# EAGLE library part XTR105 (library burr-brown)
4-20mA Current Transmitter with Sensor Excitation and Linearization
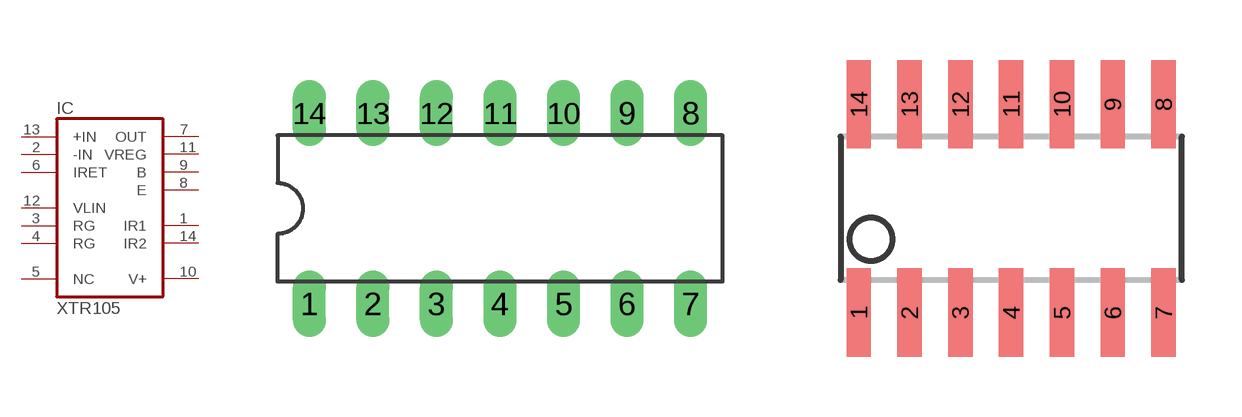
[diagram p2: symbol with the pads of DIL14; footprints DIL14, SO14]

Designator prefix IC

## XTR105P (MF: TEXAS INSTRUMENT CONNECTORS; MPN: XTR105P; OC_FARNELL: 1461141; OC_NEWARK: 77C3629)  [DIL14]
1  IR1  pas
2  -IN  in
3  RG  pas
4  RG  pas
5  NC  nc
6  IRET  in
7  OUT  out
8  E  out
9  B  out
10  V+  pwr
11  VREG  out
12  VLIN  pas
13  +IN  in
14  IR2  pas

## XTR105U (MF: TEXAS INSTRUMENTS; MPN: XTR105U; OC_FARNELL: 1212353; OC_NEWARK: 33C4287)  [SO14]
Pads as for DIL14

## Footprint DIL14 (pad centres in mm)
Dual In Line Package
drill 0.813 long: 1 -7.62,-3.81; 2 -5.08,-3.81; 3 -2.54,-3.81; 4 0,-3.81; 5 2.54,-3.81; 6 5.08,-3.81; 7 7.62,-3.81; 8 7.62,3.81; 9 5.08,3.81; 10 2.54,3.81; 11 0,3.81; 12 -2.54,3.81; 13 -5.08,3.81; 14 -7.62,3.81

## Footprint SO14 (pad centres in mm)
Small Outline Package
smd 0.61 x 2.21: 1 -3.81,-2.603; 2 -2.54,-2.603; 3 -1.27,-2.603; 4 0,-2.603; 5 1.27,-2.603; 6 2.54,-2.603; 7 3.81,-2.603; 8 3.81,2.603; 9 2.54,2.603; 10 1.27,2.603; 11 0,2.603; 12 -1.27,2.603; 13 -2.54,2.603; 14 -3.81,2.603